# Altium footprint library TOxx.PcbLib: 93 footprints (part 4 of 6)
Each footprint in its own frame and in the unit in brackets; x right, y up, seen from the top. Pads: shape width x height; smd on the part's side, far side on the other; paste and mask are expansions set on the pad; w line width, h text height; cw(c..) or ccw(c..) is an arc to the next point about the centre after c.
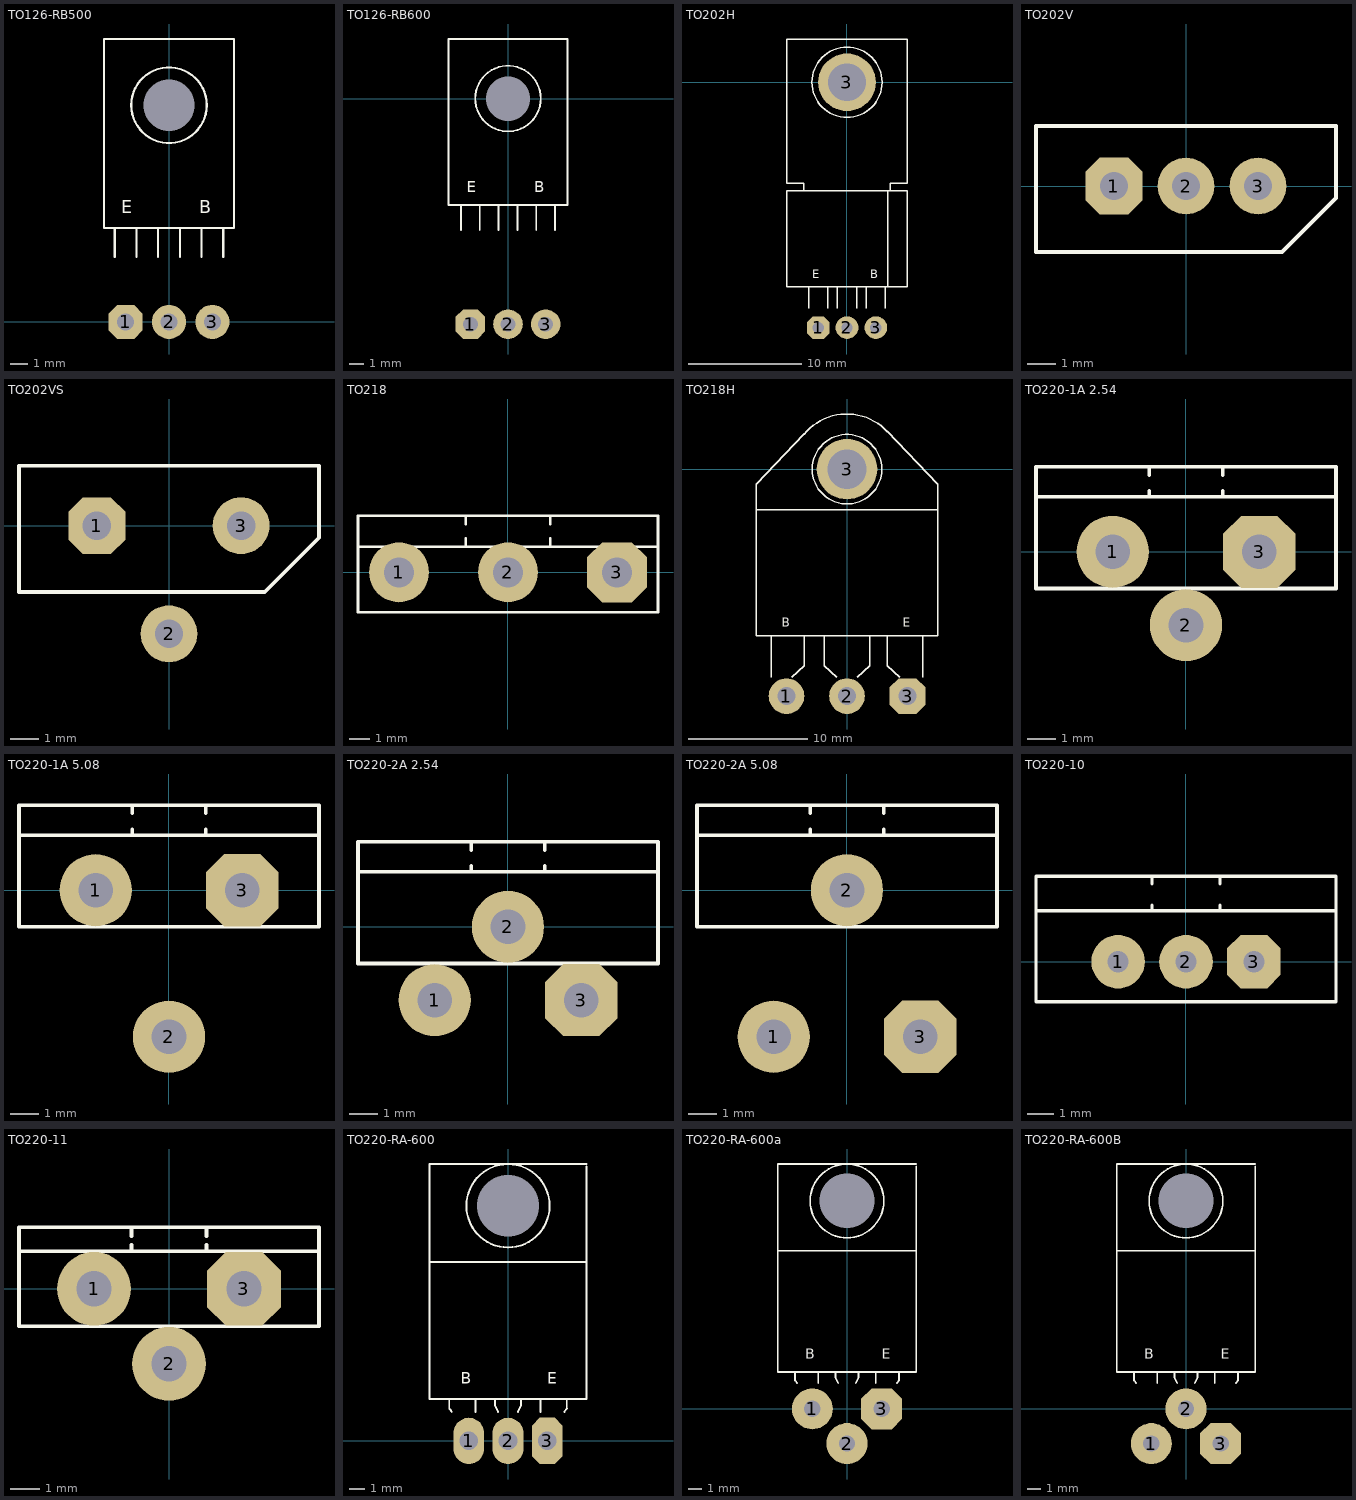
[diagram p3: the footprints below, top view; thin cyan lines are the x and y axes]

## TO126-RB500 [mm]
pads (4):
  round 0 hole 3 unplated: 0(0,12.7)
  oct 2x2 hole 1: 1(-2.54,0)
  round 2 hole 1: 2(0,0) 3(2.54,0)
TopOverlay:
  circle w0.125: c0,12.7 r2.214
  lines w0.125: -3.175,3.81 -3.175,5.503 ; -1.905,3.81 -1.905,5.503 ; -0.635,3.81 -0.635,5.503 ; 0.635,3.81 0.635,5.503 ; 1.905,3.81 1.905,5.503 ; 3.175,3.81 3.175,5.503 ; -3.81,5.503 -3.81,16.577 3.81,16.577 3.81,5.503 -2.963,5.503 -3.81,5.503
  text "B" at 1.778,6.096 h1.27
  text "E" at -2.794,6.096 h1.27
3D body: height -1.69, standoff -6.8, extent -3.81,-0.254 3.81,16.577

## TO126-RB600 [mm]
pads (4):
  round 0 hole 3 unplated: 0(0,0)
  oct 2x2 hole 1: 1(-2.54,-15.24)
  round 2 hole 1: 2(0,-15.24) 3(2.54,-15.24)
TopOverlay:
  circle w0.125: c0,0 r2.214
  lines w0.125: -3.175,-8.89 -3.175,-7.197 ; -1.905,-8.89 -1.905,-7.197 ; -0.635,-8.89 -0.635,-7.197 ; 0.635,-8.89 0.635,-7.197 ; 1.905,-8.89 1.905,-7.197 ; 3.175,-8.89 3.175,-7.197 ; -4.022,-7.197 -4.022,4.022 4.022,4.022 4.022,-7.197 -2.963,-7.197 -4.022,-7.197
  text "B" at 1.778,-6.604 h1.27
  text "E" at -2.794,-6.604 h1.27
3D body: height -1.69, standoff -6.8, extent -3.81,-15.494 3.81,3.877

## TO202H [mm]
pads (4):
  oct 2x2 hole 1: 1(-2.54,-21.59)
  round 2 hole 1: 2(0,-21.59) 3(2.54,-21.59)
  round 5.08 hole 3.302: 3(0,0)
TopOverlay:
  circle w0.125: c0,0 r3.09
  lines w0.125: -3.81,-9.525 -3.81,-8.89 -5.292,-8.89 -5.292,3.81 5.292,3.81 5.292,-8.89 3.81,-8.89 3.81,-9.525 ; -3.387,-19.89 -3.387,-17.992 ; -1.693,-19.89 -1.693,-17.992 ; -0.847,-19.89 -0.847,-17.992 ; 0.847,-19.89 0.847,-17.992 ; 1.693,-19.89 1.693,-17.992 ; 3.387,-19.89 3.387,-17.992 ; 3.598,-17.992 3.598,-9.525 ; -5.292,-17.992 -5.292,-9.525 5.292,-9.525 5.292,-17.992 -5.292,-17.992
  text "E" at -3.048,-17.526 h1.27
  text "B" at 2.032,-17.526 h1.27

## TO202V [mm]
pads (3):
  oct 2x2 hole 1: 1(-2.54,0)
  round 2 hole 1: 2(0,0) 3(2.54,0)
TopOverlay:
  lines w0.125: -5.292,-2.328 3.387,-2.328 5.292,-0.423 5.292,2.117 -5.292,2.117 -5.292,-2.328

## TO202VS [mm]
pads (3):
  oct 2x2 hole 1: 1(-2.54,0)
  round 2 hole 1: 2(0,-3.81) 3(2.54,0)
TopOverlay:
  lines w0.125: -5.283,-2.337 -5.283,2.108 5.283,2.108 5.283,-0.432 3.378,-2.337 -5.283,-2.337

## TO218 [mm]
pads (3):
  round 3 hole 1.5: 1(-5.45,0) 2(0,0)
  oct 3x3 hole 1.5: 3(5.45,0)
TopOverlay:
  lines w0.125: -7.493,1.27 7.493,1.27 ; -2.117,1.27 -2.117,1.693 ; -2.116,2.402 -2.116,2.825 ; 2.117,1.27 2.117,1.693 ; 2.117,2.402 2.117,2.825 ; -7.5,-2 -7.5,2.825 7.5,2.825 7.5,-2 -7.5,-2
3D body: height 24.1, standoff -1.18, extent -7.5,-1.975 7.5,2.825

## TO218H [mm]
pads (4):
  round 3 hole 1.5: 1(-5.08,-19.05) 2(0,-19.05)
  round 5.08 hole 3.302: 3(0,0)
  oct 3x3 hole 1.5: 3(5.08,-19.05)
TopOverlay:
  circle w0.125: c0,0 r2.921
  lines w0.125: -6.35,-17.45 -6.35,-13.97 ; -4.657,-17.45 -3.598,-16.51 -3.598,-13.97 ; -3.602,2.917 cw(c0,0) 3.39,3.161 ; -3.598,2.963 -7.62,-1.27 -7.62,-3.387 ; -1.905,-13.97 -1.905,-16.51 -0.847,-17.45 ; 0.847,-17.45 1.905,-16.51 1.905,-13.97 ; 3.387,-13.97 3.387,-16.51 4.445,-17.45 ; 3.387,3.175 7.62,-1.27 7.62,-3.387 ; 6.35,-17.45 6.35,-13.97 ; -7.62,-3.387 -7.62,-13.97 7.62,-13.97 7.62,-3.387 ; -7.62,-3.387 7.62,-3.387
  text "E" at 4.699,-13.462 h1.27
  text "B" at -5.461,-13.462 h1.27

## TO220-1A 2.54 [mm]
pads (3):
  round 2.5 hole 1.2: 1(-2.54,0) 2(0,-2.54)
  oct 2.5x2.5 hole 1.2: 3(2.54,0)
TopOverlay:
  lines w0.125: -5.2,1.905 5.2,1.905 ; -1.27,1.905 -1.27,2.117 ; -1.27,2.667 -1.27,2.921 ; 1.27,1.905 1.27,2.117 ; 1.27,2.667 1.27,2.921 ; -5.2,-1.27 -5.2,2.95 5.2,2.95 5.2,-1.27 -5.2,-1.27
3D body: height 23.29, standoff -3.87, extent -5.2,-2.791 5.2,2.95

## TO220-1A 5.08 [mm]
pads (3):
  round 2.5 hole 1.2: 1(-2.54,0) 2(0,-5.08)
  oct 2.5x2.5 hole 1.2: 3(2.54,0)
TopOverlay:
  lines w0.125: -5.2,1.905 5.2,1.905 ; -1.27,1.905 -1.27,2.117 ; -1.27,2.667 -1.27,2.921 ; 1.27,1.905 1.27,2.117 ; 1.27,2.667 1.27,2.921 ; -5.2,-1.27 5.2,-1.27 5.2,2.95 -5.2,2.95 -5.2,-1.27
3D body: height 23.29, standoff -2.41, extent -5.2,-5.331 5.2,2.95

## TO220-2A 2.54 [mm]
pads (3):
  round 2.5 hole 1.2: 1(-2.54,-2.54) 2(0,0)
  oct 2.5x2.5 hole 1.2: 3(2.54,-2.54)
TopOverlay:
  lines w0.125: -5.2,1.905 5.2,1.905 ; -1.27,1.905 -1.27,2.117 ; -1.27,2.667 -1.27,2.921 ; 1.27,1.905 1.27,2.117 ; 1.27,2.667 1.27,2.921 ; -5.2,-1.27 5.2,-1.27 5.2,2.95 -5.2,2.95 -5.2,-1.27
3D body: height 23.29, standoff -3.87, extent -5.2,-2.791 5.2,2.95

## TO220-2A 5.08 [mm]
pads (3):
  round 2.5 hole 1.2: 1(-2.54,-5.08) 2(0,0)
  oct 2.5x2.5 hole 1.2: 3(2.54,-5.08)
TopOverlay:
  lines w0.125: -5.2,1.905 5.2,1.905 ; -1.27,1.905 -1.27,2.117 ; -1.27,2.667 -1.27,2.921 ; 1.27,1.905 1.27,2.117 ; 1.27,2.667 1.27,2.921 ; -5.2,-1.27 5.2,-1.27 5.2,2.95 -5.2,2.95 -5.2,-1.27
3D body: height 23.29, standoff -2.41, extent -5.2,-5.331 5.2,2.95

## TO220-10 [mm]
pads (3):
  round 2 hole 0.8: 1(-2.54,0) 2(0,0)
  oct 2x2 hole 0.8: 3(2.54,0)
TopOverlay:
  lines w0.125: -5.588,1.905 5.588,1.905 ; -1.27,1.905 -1.27,2.117 ; -1.27,2.921 -1.27,3.175 ; 1.27,1.905 1.27,2.117 ; 1.27,2.921 1.27,3.175 ; -5.606,-1.495 -5.606,3.195 5.607,3.195 5.607,-1.495 -5.606,-1.495
3D body: height 21.33, standoff -3.05, extent -5.606,-1.495 5.607,3.195

## TO220-11 [mm]
pads (3):
  round 2.5 hole 1.2: 1(-2.54,0) 2(0,-2.54)
  oct 2.5x2.5 hole 1.2: 3(2.54,0)
TopOverlay:
  lines w0.125: -1.27,1.27 -1.27,1.482 ; -1.27,1.778 -1.27,2.032 ; 1.27,1.27 1.27,1.482 ; 1.27,1.778 1.27,2.032 ; -5.08,1.27 -5.08,2.085 5.08,2.085 5.08,1.27 ; -5.08,1.27 -5.08,-1.27 5.08,-1.27 5.08,1.27 ; -5.08,1.27 5.08,1.27
3D body: height 22.98, standoff -2.33, extent -5.08,-2.845 5.08,2.085

## TO220-RA-600 [mm]
pads (4):
  round 0 hole 4 unplated: 0(0,15.24)
  oval 2x3 hole 1.2: 1(-2.54,0) 2(0,0)
  oct 2x3 hole 1.2: 3(2.54,0)
TopOverlay:
  circle w0.125: c0,15.24 r2.7
  lines w0.125: -5.08,11.599 5.08,11.599 ; -3.81,2.074 -3.81,2.709 ; -3.762,2.042 -3.647,1.881 ; -2.117,1.881 -2.117,2.709 ; -0.847,2.709 -0.847,2.286 -0.635,1.881 ; 0.635,1.881 0.847,2.286 0.847,2.709 ; 2.117,1.881 2.117,2.709 ; 3.655,1.881 3.818,2.098 ; 3.81,2.074 3.81,2.709 ; 5.08,17.78 5.08,2.709 -5.08,2.709 -5.08,17.949 5.08,17.949
  text "E" at 2.54,3.429 h1.27
  text "B" at -3.048,3.429 h1.27
3D body: height 4.45, standoff -1.79, extent -5.08,-0.19 5.08,17.78

## TO220-RA-600a [mm]
pads (4):
  round 0 hole 4 unplated: 0(0,15.24)
  round 3 hole 1.2: 1(-2.54,0) 2(0,-2.54)
  oct 3x3 hole 1.2: 3(2.54,0)
TopOverlay:
  circle w0.125: c0,15.24 r2.7
  lines w0.125: -5.08,11.599 5.08,11.599 ; -3.81,2.074 -3.81,2.709 ; -3.762,2.042 -3.647,1.881 ; -2.117,1.881 -2.117,2.709 ; -0.847,2.709 -0.847,2.286 -0.635,1.881 ; 0.635,1.881 0.847,2.286 0.847,2.709 ; 2.117,1.881 2.117,2.709 ; 3.655,1.881 3.818,2.098 ; 3.81,2.074 3.81,2.709 ; 5.08,17.78 5.08,2.709 -5.08,2.709 -5.08,17.949 5.08,17.949
  text "E" at 2.54,3.429 h1.27
  text "B" at -3.048,3.429 h1.27
3D body: height 4.45, standoff -1.79, extent -5.08,-0.19 5.08,17.78

## TO220-RA-600B [mm]
pads (4):
  round 0 hole 4 unplated: 0(0,15.24)
  round 3 hole 1.2: 1(-2.54,-2.54) 2(0,0)
  oct 3x3 hole 1.2: 3(2.54,-2.54)
TopOverlay:
  circle w0.125: c0,15.24 r2.7
  lines w0.125: -5.08,11.599 5.08,11.599 ; -3.81,2.074 -3.81,2.709 ; -3.762,2.042 -3.647,1.881 ; -2.117,1.881 -2.117,2.709 ; -0.847,2.709 -0.847,2.286 -0.635,1.881 ; 0.635,1.881 0.847,2.286 0.847,2.709 ; 2.117,1.881 2.117,2.709 ; 3.655,1.881 3.818,2.098 ; 3.81,2.074 3.81,2.709 ; 5.08,17.78 5.08,2.709 -5.08,2.709 -5.08,17.949 5.08,17.949
  text "E" at 2.54,3.429 h1.27
  text "B" at -3.048,3.429 h1.27
3D body: height 4.45, standoff -1.79, extent -5.08,-0.19 5.08,17.78